# Altium schematic symbol library Microcontroladores_Sch.SchLib: 5 symbols
Pins are listed as number, name and electrical type; pins without a type are passive.

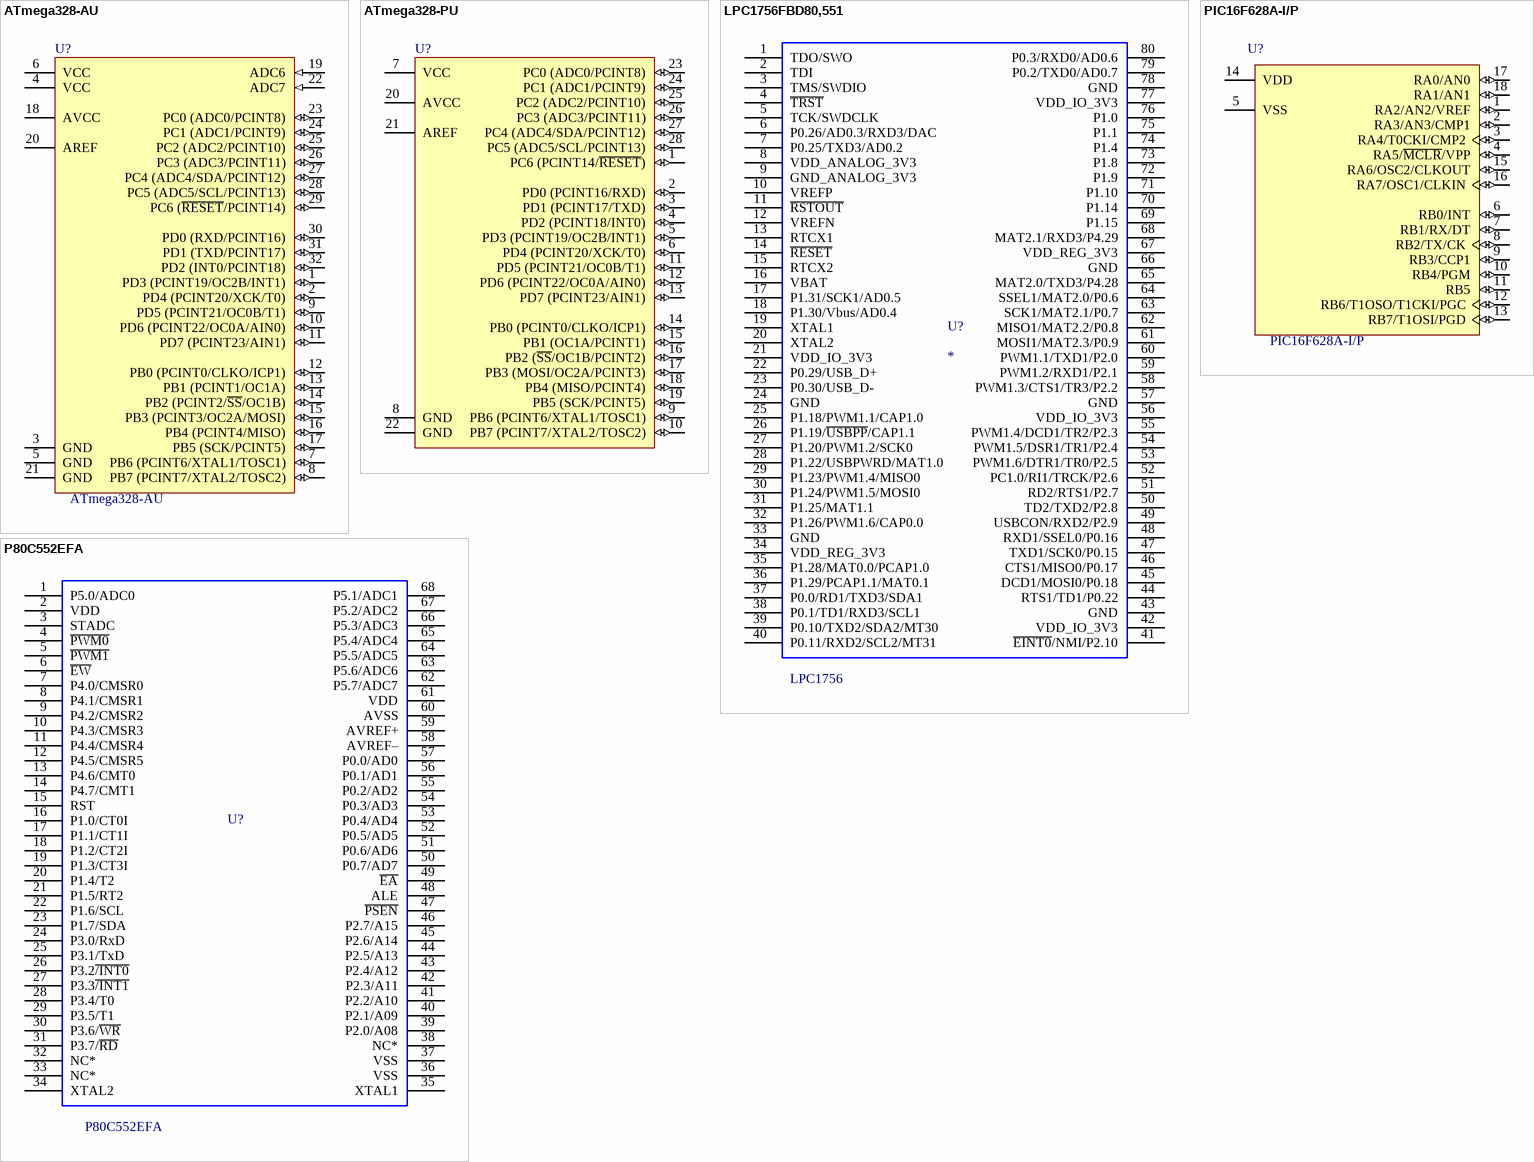
[diagram p0: symbols ATmega328-AU to PIC16F628A-I/P]

## ATmega328-AU
designator U?  Modelo: ATmega328-AU
8-bit AVR Microcontroller, 32KB Flash, 1KB EEPROM, 2KB SRAM, 32-pin TQFP, Industrial Grade (-40°C to 85°C); Descrição: Microcontrolador 8 Bits; Encapsulamento: SMD 32A; Marca: Atmel; Valor: *; Observação: *
footprint TQFP32 (Thin QFP, 32-Leads, Body 7x7mm, Pitch 0.8mm, IPC Medium Density)
pins: 1 PD3 (PCINT19/OC2B/INT1) (io), 2 PD4 (PCINT20/XCK/T0) (io), 3 GND (power), 4 VCC (power), 5 GND (power), 6 VCC (power), 7 PB6 (PCINT6/XTAL1/TOSC1) (io), 8 PB7 (PCINT7/XTAL2/TOSC2) (io), 9 PD5 (PCINT21/OC0B/T1) (io), 10 PD6 (PCINT22/OC0A/AIN0) (io), 11 PD7 (PCINT23/AIN1) (io), 12 PB0 (PCINT0/CLKO/ICP1) (io), 13 PB1 (PCINT1/OC1A) (io), 14 PB2 (PCINT2/~{SS}/OC1B) (io), 15 PB3 (PCINT3/OC2A/MOSI) (io), 16 PB4 (PCINT4/MISO) (io), 17 PB5 (SCK/PCINT5) (io), 18 AVCC (power), 19 ADC6 (in), 20 AREF, 21 GND (power), 22 ADC7 (in), 23 PC0 (ADC0/PCINT8) (io), 24 PC1 (ADC1/PCINT9) (io), 25 PC2 (ADC2/PCINT10) (io), 26 PC3 (ADC3/PCINT11) (io), 27 PC4 (ADC4/SDA/PCINT12) (io), 28 PC5 (ADC5/SCL/PCINT13) (io), 29 PC6 (~{RESET}/PCINT14) (io), 30 PD0 (RXD/PCINT16) (io), 31 PD1 (TXD/PCINT17) (io), 32 PD2 (INT0/PCINT18) (io)

## ATmega328-PU
designator U?
8-bit AVR Microcontroller, 32KB Flash, 1KB EEPROM, 2KB SRAM, 28-pin PDIP, Industrial Grade (-40°C to 85°C); Descrição: Microcontrolador ATmega328; Encapsulamento: PTH DIP28; Marca: ATmel; Modelo: ATmega328-PU; Valor: *; Observação: *
footprint DIP28 (DIP, 28-Leads, Row Spacing 7.62mm, Pitch 2.54mm, Body 34.67x7.3mm)
pins: 1 PC6 (PCINT14/~{RESET}) (io), 2 PD0 (PCINT16/RXD) (io), 3 PD1 (PCINT17/TXD) (io), 4 PD2 (PCINT18/INT0) (io), 5 PD3 (PCINT19/OC2B/INT1) (io), 6 PD4 (PCINT20/XCK/T0) (io), 7 VCC (power), 8 GND (power), 9 PB6 (PCINT6/XTAL1/TOSC1) (io), 10 PB7 (PCINT7/XTAL2/TOSC2) (io), 11 PD5 (PCINT21/OC0B/T1) (io), 12 PD6 (PCINT22/OC0A/AIN0) (io), 13 PD7 (PCINT23/AIN1) (io), 14 PB0 (PCINT0/CLKO/ICP1) (io), 15 PB1 (OC1A/PCINT1) (io), 16 PB2 (~{SS}/OC1B/PCINT2) (io), 17 PB3 (MOSI/OC2A/PCINT3) (io), 18 PB4 (MISO/PCINT4) (io), 19 PB5 (SCK/PCINT5) (io), 20 AVCC (power), 21 AREF (power), 22 GND (power), 23 PC0 (ADC0/PCINT8) (io), 24 PC1 (ADC1/PCINT9) (io), 25 PC2 (ADC2/PCINT10) (io), 26 PC3 (ADC3/PCINT11) (io), 27 PC4 (ADC4/SDA/PCINT12) (io), 28 PC5 (ADC5/SCL/PCINT13) (io)

## LPC1756FBD80,551
designator U?  Valor: LPC1756
Microcontrolador ARM Cortex M3; Descrição: Microntrolador ARM Cortex M3; Encapsulamento: SMD-LQFP80; Marca: NXP; Modelo: LPC1756FBD80,551; Observação: *
footprint QFP80Pins
pins: 1 TDO/SWO, 2 TDI, 3 TMS/SWDIO, 4 ~{TRST}, 5 TCK/SWDCLK, 6 P0.26/AD0.3/RXD3/DAC, 7 P0.25/TXD3/AD0.2, 8 VDD_ANALOG_3V3, 9 GND_ANALOG_3V3, 10 VREFP, 11 ~{RSTOUT}, 12 VREFN, 13 RTCX1, 14 ~{RESET}, 15 RTCX2, 16 VBAT, 17 P1.31/SCK1/AD0.5, 18 P1.30/Vbus/AD0.4, 19 XTAL1, 20 XTAL2, 21 VDD_IO_3V3, 22 P0.29/USB_D+, 23 P0.30/USB_D-, 24 GND, 25 P1.18/PWM1.1/CAP1.0, 26 P1.19/~{USBPP}/CAP1.1, 27 P1.20/PWM1.2/SCK0, 28 P1.22/USBPWRD/MAT1.0, 29 P1.23/PWM1.4/MISO0, 30 P1.24/PWM1.5/MOSI0, 31 P1.25/MAT1.1, 32 P1.26/PWM1.6/CAP0.0, 33 GND, 34 VDD_REG_3V3, 35 P1.28/MAT0.0/PCAP1.0, 36 P1.29/PCAP1.1/MAT0.1, 37 P0.0/RD1/TXD3/SDA1, 38 P0.1/TD1/RXD3/SCL1, 39 P0.10/TXD2/SDA2/MT30, 40 P0.11/RXD2/SCL2/MT31, 41 ~{EINT0}/NMI/P2.10, 42 VDD_IO_3V3, 43 GND, 44 RTS1/TD1/P0.22, 45 DCD1/MOSI0/P0.18, 46 CTS1/MISO0/P0.17, 47 TXD1/SCK0/P0.15, 48 RXD1/SSEL0/P0.16, 49 USBCON/RXD2/P2.9, 50 TD2/TXD2/P2.8, 51 RD2/RTS1/P2.7, 52 PC1.0/RI1/TRCK/P2.6, 53 PWM1.6/DTR1/TR0/P2.5, 54 PWM1.5/DSR1/TR1/P2.4, 55 PWM1.4/DCD1/TR2/P2.3, 56 VDD_IO_3V3, 57 GND, 58 PWM1.3/CTS1/TR3/P2.2, 59 PWM1.2/RXD1/P2.1, 60 PWM1.1/TXD1/P2.0, 61 MOSI1/MAT2.3/P0.9, 62 MISO1/MAT2.2/P0.8, 63 SCK1/MAT2.1/P0.7, 64 SSEL1/MAT2.0/P0.6, 65 MAT2.0/TXD3/P4.28, 66 GND, 67 VDD_REG_3V3, 68 MAT2.1/RXD3/P4.29, 69 P1.15, 70 P1.14, 71 P1.10, 72 P1.9, 73 P1.8, 74 P1.4, 75 P1.1, 76 P1.0, 77 VDD_IO_3V3, 78 GND, 79 P0.2/TXD0/AD0.7, 80 P0.3/RXD0/AD0.6

## P80C552EFA
designator U?  Valor: P80C552EFA  (hidden comment: *)
Microcontrolador 8 bits; Descrição: Microntrolador 8 bits; Encapsulamento: SMD-PLCC68; Marca: NXP; Modelo: P80C552EFA; Observação: *
pins: 1 P5.0/ADC0, 2 VDD, 3 STADC, 4 ~{PWM0}, 5 ~{PWM1}, 6 ~{EW}, 7 P4.0/CMSR0, 8 P4.1/CMSR1, 9 P4.2/CMSR2, 10 P4.3/CMSR3, 11 P4.4/CMSR4, 12 P4.5/CMSR5, 13 P4.6/CMT0, 14 P4.7/CMT1, 15 RST, 16 P1.0/CT0I , 17 P1.1/CT1I, 18 P1.2/CT2I, 19 P1.3/CT3I, 20 P1.4/T2, 21 P1.5/RT2, 22 P1.6/SCL, 23 P1.7/SDA, 24 P3.0/RxD, 25 P3.1/TxD, 26 P3.2~{/INT0}, 27 P3.3~{/INT1}, 28 P3.4/T0, 29 P3.5/T1, 30 P3.6/~{WR}, 31 P3.7/~{RD}, 32 NC*, 33 NC*, 34 XTAL2, 35 XTAL1, 36 VSS, 37 VSS, 38 NC*, 39 P2.0/A08, 40 P2.1/A09, 41 P2.2/A10, 42 P2.3/A11, 43 P2.4/A12, 44 P2.5/A13, 45 P2.6/A14, 46 P2.7/A15, 47 ~{PSEN}, 48 ALE, 49 ~{EA}, 50 P0.7/AD7, 51 P0.6/AD6, 52 P0.5/AD5, 53 P0.4/AD4, 54 P0.3/AD3, 55 P0.2/AD2, 56 P0.1/AD1, 57 P0.0/AD0, 58 AVREF–, 59 AVREF+, 60 AVSS, 61 VDD, 62 P5.7/ADC7, 63 P5.6/ADC6, 64 P5.5/ADC5, 65 P5.4/ADC4, 66 P5.3/ADC3, 67 P5.2/ADC2, 68 P5.1/ADC1

## PIC16F628A-I/P
designator U?
FLASH-Based 8-Bit CMOS Microcontroller with nanoWatt Technology, 2K (x14-Bit words) FLASH, 224 Bytes SRAM, 18-Pin PDIP, 3.0 to 5.5V Supply Range, Industrial Temperature; Descrição: Microcontrolador 8 bits; Encapsulamento: PTH - DIP18; Marca: Microchip; Valor: *; Observação: *; Modelo: PIC16F628A-I/P
footprint DIP18 (DIP, 18-Leads, Row Spacing 7.62mm, Pitch 2.54mm, Body 22.9x6.6mm)
pins: 1 RA2/AN2/VREF (io), 2 RA3/AN3/CMP1 (io), 3 RA4/T0CKI/CMP2 (io), 4 RA5/~{MCLR}/VPP (io), 5 VSS (power), 6 RB0/INT (io), 7 RB1/RX/DT (io), 8 RB2/TX/CK (io), 9 RB3/CCP1 (io), 10 RB4/PGM (io), 11 RB5 (io), 12 RB6/T1OSO/T1CKI/PGC (io), 13 RB7/T1OSI/PGD (io), 14 VDD (power), 15 RA6/OSC2/CLKOUT (io), 16 RA7/OSC1/CLKIN (io), 17 RA0/AN0 (io), 18 RA1/AN1 (io)